# Altium footprint library WE-LQSH.PcbLib: 4 footprints
Each footprint in its own frame and in the unit in brackets; x right, y up, seen from the top. Pads: shape width x height; smd on the part's side, far side on the other; paste and mask are expansions set on the pad; w line width, h text height; cw(c..) or ccw(c..) is an arc to the next point about the centre after c.
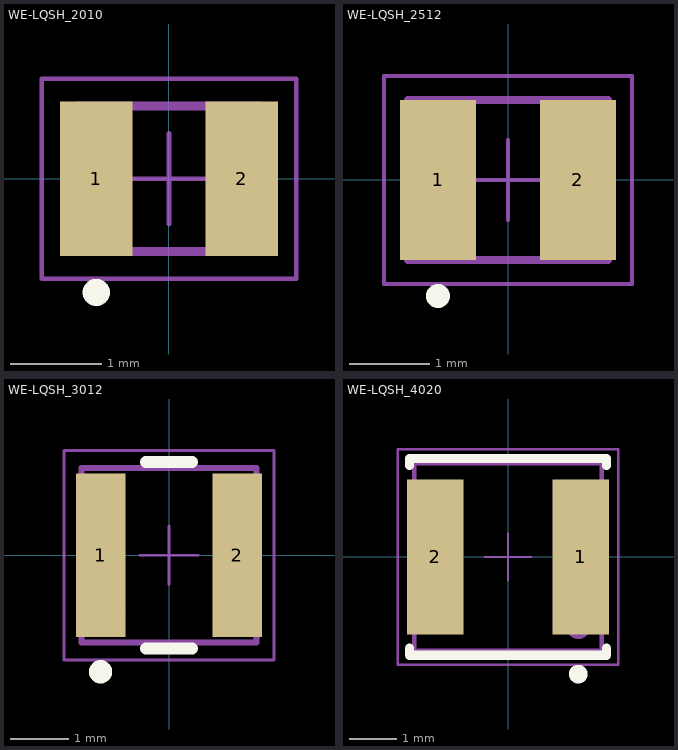
[diagram p0: the footprints below, top view; thin cyan lines are the x and y axes]

## WE-LQSH_2010 [mm] "SMT Semi-Shielded High Saturation Power Inductor, body 2x1.6mm"
height 1
pads (2):
  rect 0.8x1.7 smd: 1(-0.8,0) 2(0.8,0)
Top Overlay:
  circle w0.15: c-0.8,-1.25 r0.075
Top Designator:
  text ".Designator" at -3.499,-0.233 h0.7
Top Component Outline:
  circle w0.1: c-0.7,-0.5 r0.15
  lines w0.1: -1,-0.8 1,-0.8 1,0.8 -1,0.8 -1,-0.8
Top 3D Body:
  circle w0.1: c-0.7,-0.5 r0.15
  lines w0.1: -1,-0.8 1,-0.8 1,0.8 -1,0.8 -1,-0.8
Top Courtyard:
  lines w0.05: -0.5,0 0.5,0 ; 0,-0.5 0,0.5 ; -1.4,-1.1 1.4,-1.1 1.4,1.1 -1.4,1.1 -1.4,-1.1
3D body "IndLQSH_2010.stp": height 0.99, standoff -0.01, extent -1,-0.8 1,0.8

## WE-LQSH_2512 [mm] "SMT Semi-Shielded High Saturation Power Inductor, body 2.5x2mm"
height 1.2
pads (2):
  rect 0.95x2 smd: 1(-0.875,0) 2(0.875,0)
Top Overlay:
  circle w0.15: c-0.875,-1.45 r0.075
Top Designator:
  text ".Designator" at -3.499,-0.233 h0.7
Top Component Outline:
  circle w0.1: c-0.85,-0.6 r0.2
  lines w0.1: -1.25,-1 1.25,-1 1.25,1 -1.25,1 -1.25,-1
Top 3D Body:
  circle w0.1: c-0.85,-0.6 r0.2
  lines w0.1: -1.25,-1 1.25,-1 1.25,1 -1.25,1 -1.25,-1
Top Courtyard:
  lines w0.05: -0.5,0 0.5,0 ; 0,-0.5 0,0.5 ; -1.55,-1.3 1.55,-1.3 1.55,1.3 -1.55,1.3 -1.55,-1.3
3D body "IndLQSH_2512.stp": height 1.19, standoff -0.01, extent -1.25,-1 1.25,1

## WE-LQSH_3012 [mm] "SMT Semi-Shielded High Saturation Power Inductor, body 3x3mm"
height 1.2
pads (2):
  rect 0.85x2.8 smd: 1(-1.175,0) 2(1.175,0)
Top Overlay:
  circle w0.2: c-1.175,-2 r0.1
  lines w0.2: -0.4,-1.6 0.4,-1.6 ; -0.4,1.6 0.4,1.6
Top Designator:
  text ".Designator" at -3.499,-0.233 h0.7
Top Component Outline:
  circle w0.1: c-1,-1 r0.2
  lines w0.1: -1.5,-1.5 -1.5,1.5 1.5,1.5 1.5,-1.5 -1.5,-1.5
Top 3D Body:
  circle w0.1: c-1,-1 r0.2
  lines w0.1: -1.5,-1.5 -1.5,1.5 1.5,1.5 1.5,-1.5 -1.5,-1.5
Top Courtyard:
  lines w0.05: -0.5,0 0.5,0 ; 0,-0.5 0,0.5 ; -1.8,-1.8 1.8,-1.8 1.8,1.8 -1.8,1.8 -1.8,-1.8
3D body "IndLQSH_3012.stp": height 1.2, standoff 0, extent -1.5,-1.543 1.5,1.5

## WE-LQSH_4020 [mm] "SMT Semi-Shielded High Saturation Power Inductor, body 4x4mm"
height 2
pads (2):
  rect 1.2x3.3 smd: 1(1.55,0) 2(-1.55,0)
Top Overlay:
  circle w0.2: c1.5,-2.5 r0.1
  lines w0.2: -2.1,-1.95 -2.1,-2.1 2.1,-2.1 2.1,-1.95 ; -2.1,1.95 -2.1,2.1 2.1,2.1 2.1,1.95
Top Designator:
  text ".Designator" at -4.998,-0.333 h1
Top Component Outline:
  circle w0.1: c1.5,-1.5 r0.2
  lines w0.1: -2,-2 -2,2 2,2 2,-2 -2,-2
Top 3D Body:
  circle w0.1: c1.5,-1.5 r0.2
  lines w0.1: -2,-2 -2,2 2,2 2,-2 -2,-2
Top Courtyard:
  lines w0.05: -0.5,0 0.5,0 ; 0,-0.5 0,0.5 ; -2.35,-2.3 -2.35,2.3 2.35,2.3 2.35,-2.3 -2.35,-2.3
3D body "IndLQSH_4020.stp": height 2.01, standoff 0.02, extent -2,-2.02 2,2